# Altium integrated library Linear Technology Power Management LDO Linear Regulators.IntLib: 2339 symbols (part 105 of 131)
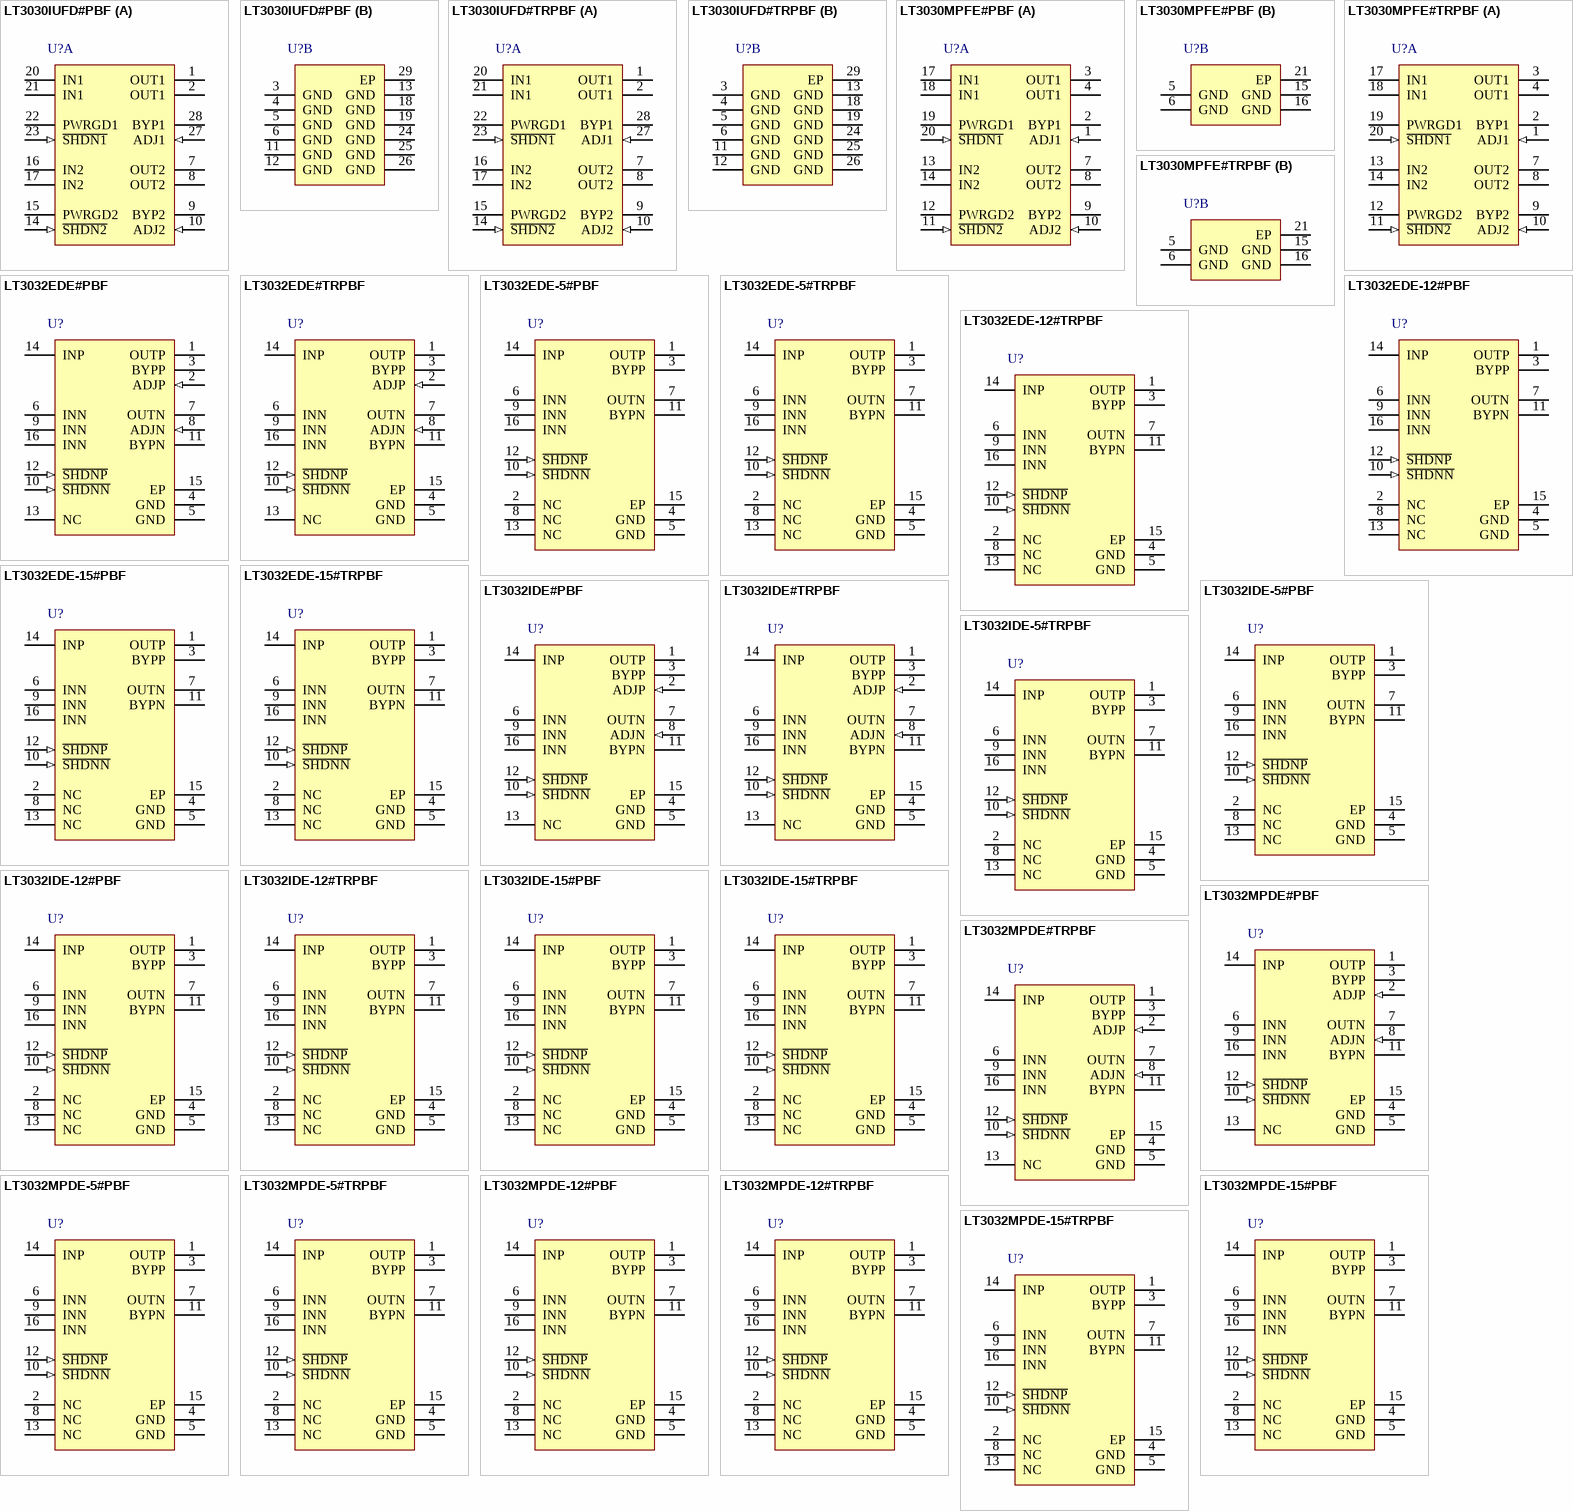
[diagram p173: symbols LT3030IUFD#PBF to LT3032MPDE-15#TRPBF]

## LT3032MPDE-12#TRPBF
designator U?
Dual 150 mA Positive / Negative Low Noise Low Dropout Linear Regulator, +/-2.3 to +/-20 V Vin, +/-12 V Vout, 14-pin SON (DE14MA-14), -55 to 125 degC, Pb-Free, Tape and Reel; Manufacturer: Linear Technology; PartNumber: LT3032MPDE-12#TRPBF; Discrete Pass Element: no; Dropout Voltage(V): 0.3; Iout(mA): 150; Isupply(mA): 0.025; Noise(uV): 30; Number of Outputs: 2; Output Voltage: +/-12V; PSRR(dB): 68; Shutdown Current(uA): 0.1; DatasheetVersion: Rev. D; PackageVersion: Rev. A, 06/2010; PackageReference: DE14MA-14; PackageDescription: 14-Pin Plastic DFN, Body 4 x 3 mm, Pitch 0.5 mm; Supplier 1: Digi-Key; Supplier Part Number 1: LT3032MPDE-12#TRPBF-ND; Packing: Tape and Reel; RoHS: TRUE; Vin Max(V): +/-20; Vin Min(V): +/-2.3; Vout Max(V): +/-12; Vout Min(V): +/-12; Mounting Technology: Surface Mount; ComponentLink1Description: Manufacturer URL; ComponentLink1URL: http://www.linear.com/; ComponentLink2Description: Datasheet; ComponentLink2URL: http://cds.linear.com/docs/en/datasheet/3032fd.pdf; ComponentLink3Description: Package Specification; ComponentLink3URL: http://cds.linear.com/docs/en/packaging/DFN_14_05-08-1731.pdf
footprint LT-DE14MA-14_V (DE14MA, 14-Leads, Body 4x3mm, Pitch 0.5mm)
pins: 1 OUTP (power) "Positive Output. This output supplies power to the positive side load. A minimum output capacitor of 2.2uF is required to prevent oscillations. Larger output capacitors are required for applications with large transient (See Datasheet)", 2 NC "No Connect. The No Connect pin has no connection to internal circuitry and may be tied to INP, GND, INN, S\H\D\N\P\, S\H\D\N\N\, OUTP, OUTN, floated, or tied to any other point.", 3 BYPP "Positive Bypass. The BYPP pin is used to bypass the reference of the positive side regulator to achieve low noise performance. The BYPP pin is clamped internally to +/-0.6V (one VBE). A small capacitor from OUTP to this pin (See Datasheet)", 4 GND (power) "Ground. One of the DFN's exposed backside pads (Pin 15) is an electrical connection to ground. To ensure proper electrical and thermal performance, solder Pin 15 to the PCB's ground and tie directly to Pins 4 and(See Datasheet)", 5 GND (power) "Ground. One of the DFN's exposed backside pads (Pin 15) is an electrical connection to ground. To ensure proper electrical and thermal performance, solder Pin 15 to the PCB's ground and tie directly to Pins 4 and(See Datasheet)", 6 INN (power) "Negative Input. The DFN package's second exposed backside pad (Pin 16) is an electrical connection to INN. To ensure proper electrical and thermal performance, solder Pin 16 to the PCB's negative input supply and (See Datasheet)", 7 OUTN (power) "Negative Output. This output supplies power to the negative side load. A minimum output capacitor of 1uF is required to prevent oscillations. Larger output capacitors are required for applications with large transient loads (See Datasheet)", 8 NC "No Connect. The No Connect pin has no connection to internal circuitry and may be tied to INP, GND, INN, S\H\D\N\P\, S\H\D\N\N\, OUTP, OUTN, floated, or tied to any other point.", 9 INN (power) "Negative Input. The DFN package's second exposed backside pad (Pin 16) is an electrical connection to INN. To ensure proper electrical and thermal performance, solder Pin 16 to the PCB's negative input supply and (See Datasheet)", 10 ~{SHDNN} (in) "Negative Shutdown. The S\H\D\N\N\ pin puts the negative side into a low power shutdown state. The S\H\D\N\N\ pin is referenced to ground for regulator control, allowing the negative side to be driven by either positive or (See Datasheet)", 11 BYPN "Negative Bypass. The BYPN pin is used to bypass the reference of the negative side regulator to achieve low noise performance. A small capacitor from OUTN to this pin will bypass the reference to lower the output voltage (See Datasheet)", 12 ~{SHDNP} (in) "Positive Shutdown. The S\H\D\N\P\ pin puts the positive side into a low power shutdown state. The positive output will be off when the S\H\D\N\P\ pin is pulled below 0.6V(typical). The S\H\D\N\P\ pin can be driven by 5V (See Datasheet)", 13 NC "No Connect. The No Connect pin has no connection to internal circuitry and may be tied to INP, GND, INN, S\H\D\N\P\, S\H\D\N\N\, OUTP, OUTN, floated, or tied to any other point.", 14 INP (power) "Positive Input. Power is supplied to the positive side of the LT3032 through the INP pin. A bypass capacitor is required on this pin if it is more than six inches away from the main input filter capacitor. In general, the (See Datasheet)", 15 EP (power) "Ground. One of the DFN's exposed backside pads (Pin 15) is an electrical connection to ground. To ensure proper electrical and thermal performance, solder Pin 15 to the PCB's ground and tie directly to Pins 4 and(See Datasheet)", 16 INN (power) "Negative Input. The DFN package's second exposed backside pad (Pin 16) is an electrical connection to INN. To ensure proper electrical and thermal performance, solder Pin 16 to the PCB's negative input supply and (See Datasheet)"

## LT3032MPDE-15#PBF
designator U?
Dual 150 mA Positive / Negative Low Noise Low Dropout Linear Regulator, +/-2.3 to +/-20 V Vin, +/-15 V Vout, 14-pin SON (DE14MA-14), -55 to 125 degC, Pb-Free; Manufacturer: Linear Technology; PartNumber: LT3032MPDE-15#PBF; Discrete Pass Element: no; Dropout Voltage(V): 0.3; Iout(mA): 150; Isupply(mA): 0.025; Noise(uV): 30; Number of Outputs: 2; Output Voltage: +/-15V; PSRR(dB): 68; Shutdown Current(uA): 0.1; DatasheetVersion: Rev. D; PackageVersion: Rev. A, 06/2010; PackageReference: DE14MA-14; PackageDescription: 14-Pin Plastic DFN, Body 4 x 3 mm, Pitch 0.5 mm; Supplier 1: Digi-Key; Supplier Part Number 1: LT3032MPDE-15#PBF-ND; RoHS: TRUE; Vin Max(V): +/-20; Vin Min(V): +/-2.3; Vout Max(V): +/-15; Vout Min(V): +/-15; Mounting Technology: Surface Mount; ComponentLink1Description: Manufacturer URL; ComponentLink1URL: http://www.linear.com/; ComponentLink2Description: Datasheet; ComponentLink2URL: http://cds.linear.com/docs/en/datasheet/3032fd.pdf; ComponentLink3Description: Package Specification; ComponentLink3URL: http://cds.linear.com/docs/en/packaging/DFN_14_05-08-1731.pdf
footprint LT-DE14MA-14_V (DE14MA, 14-Leads, Body 4x3mm, Pitch 0.5mm)
pins: 1 OUTP (power) "Positive Output. This output supplies power to the positive side load. A minimum output capacitor of 2.2uF is required to prevent oscillations. Larger output capacitors are required for applications with large transient (See Datasheet)", 2 NC "No Connect. The No Connect pin has no connection to internal circuitry and may be tied to INP, GND, INN, S\H\D\N\P\, S\H\D\N\N\, OUTP, OUTN, floated, or tied to any other point.", 3 BYPP "Positive Bypass. The BYPP pin is used to bypass the reference of the positive side regulator to achieve low noise performance. The BYPP pin is clamped internally to +/-0.6V (one VBE). A small capacitor from OUTP to this pin (See Datasheet)", 4 GND (power) "Ground. One of the DFN's exposed backside pads (Pin 15) is an electrical connection to ground. To ensure proper electrical and thermal performance, solder Pin 15 to the PCB's ground and tie directly to Pins 4 and(See Datasheet)", 5 GND (power) "Ground. One of the DFN's exposed backside pads (Pin 15) is an electrical connection to ground. To ensure proper electrical and thermal performance, solder Pin 15 to the PCB's ground and tie directly to Pins 4 and(See Datasheet)", 6 INN (power) "Negative Input. The DFN package's second exposed backside pad (Pin 16) is an electrical connection to INN. To ensure proper electrical and thermal performance, solder Pin 16 to the PCB's negative input supply and (See Datasheet)", 7 OUTN (power) "Negative Output. This output supplies power to the negative side load. A minimum output capacitor of 1uF is required to prevent oscillations. Larger output capacitors are required for applications with large transient loads (See Datasheet)", 8 NC "No Connect. The No Connect pin has no connection to internal circuitry and may be tied to INP, GND, INN, S\H\D\N\P\, S\H\D\N\N\, OUTP, OUTN, floated, or tied to any other point.", 9 INN (power) "Negative Input. The DFN package's second exposed backside pad (Pin 16) is an electrical connection to INN. To ensure proper electrical and thermal performance, solder Pin 16 to the PCB's negative input supply and (See Datasheet)", 10 ~{SHDNN} (in) "Negative Shutdown. The S\H\D\N\N\ pin puts the negative side into a low power shutdown state. The S\H\D\N\N\ pin is referenced to ground for regulator control, allowing the negative side to be driven by either positive or (See Datasheet)", 11 BYPN "Negative Bypass. The BYPN pin is used to bypass the reference of the negative side regulator to achieve low noise performance. A small capacitor from OUTN to this pin will bypass the reference to lower the output voltage (See Datasheet)", 12 ~{SHDNP} (in) "Positive Shutdown. The S\H\D\N\P\ pin puts the positive side into a low power shutdown state. The positive output will be off when the S\H\D\N\P\ pin is pulled below 0.6V(typical). The S\H\D\N\P\ pin can be driven by 5V (See Datasheet)", 13 NC "No Connect. The No Connect pin has no connection to internal circuitry and may be tied to INP, GND, INN, S\H\D\N\P\, S\H\D\N\N\, OUTP, OUTN, floated, or tied to any other point.", 14 INP (power) "Positive Input. Power is supplied to the positive side of the LT3032 through the INP pin. A bypass capacitor is required on this pin if it is more than six inches away from the main input filter capacitor. In general, the (See Datasheet)", 15 EP (power) "Ground. One of the DFN's exposed backside pads (Pin 15) is an electrical connection to ground. To ensure proper electrical and thermal performance, solder Pin 15 to the PCB's ground and tie directly to Pins 4 and(See Datasheet)", 16 INN (power) "Negative Input. The DFN package's second exposed backside pad (Pin 16) is an electrical connection to INN. To ensure proper electrical and thermal performance, solder Pin 16 to the PCB's negative input supply and (See Datasheet)"

## LT3032MPDE-15#TRPBF
designator U?
Dual 150 mA Positive / Negative Low Noise Low Dropout Linear Regulator, +/-2.3 to +/-20 V Vin, +/-15 V Vout, 14-pin SON (DE14MA-14), -55 to 125 degC, Pb-Free, Tape and Reel; Manufacturer: Linear Technology; PartNumber: LT3032MPDE-15#TRPBF; Discrete Pass Element: no; Dropout Voltage(V): 0.3; Iout(mA): 150; Isupply(mA): 0.025; Noise(uV): 30; Number of Outputs: 2; Output Voltage: +/-15V; PSRR(dB): 68; Shutdown Current(uA): 0.1; DatasheetVersion: Rev. D; PackageVersion: Rev. A, 06/2010; PackageReference: DE14MA-14; PackageDescription: 14-Pin Plastic DFN, Body 4 x 3 mm, Pitch 0.5 mm; Supplier 1: Digi-Key; Supplier Part Number 1: LT3032MPDE-15#TRPBF-ND; Packing: Tape and Reel; RoHS: TRUE; Vin Max(V): +/-20; Vin Min(V): +/-2.3; Vout Max(V): +/-15; Vout Min(V): +/-15; Mounting Technology: Surface Mount; ComponentLink1Description: Manufacturer URL; ComponentLink1URL: http://www.linear.com/; ComponentLink2Description: Datasheet; ComponentLink2URL: http://cds.linear.com/docs/en/datasheet/3032fd.pdf; ComponentLink3Description: Package Specification; ComponentLink3URL: http://cds.linear.com/docs/en/packaging/DFN_14_05-08-1731.pdf
footprint LT-DE14MA-14_V (DE14MA, 14-Leads, Body 4x3mm, Pitch 0.5mm)
pins: 1 OUTP (power) "Positive Output. This output supplies power to the positive side load. A minimum output capacitor of 2.2uF is required to prevent oscillations. Larger output capacitors are required for applications with large transient (See Datasheet)", 2 NC "No Connect. The No Connect pin has no connection to internal circuitry and may be tied to INP, GND, INN, S\H\D\N\P\, S\H\D\N\N\, OUTP, OUTN, floated, or tied to any other point.", 3 BYPP "Positive Bypass. The BYPP pin is used to bypass the reference of the positive side regulator to achieve low noise performance. The BYPP pin is clamped internally to +/-0.6V (one VBE). A small capacitor from OUTP to this pin (See Datasheet)", 4 GND (power) "Ground. One of the DFN's exposed backside pads (Pin 15) is an electrical connection to ground. To ensure proper electrical and thermal performance, solder Pin 15 to the PCB's ground and tie directly to Pins 4 and(See Datasheet)", 5 GND (power) "Ground. One of the DFN's exposed backside pads (Pin 15) is an electrical connection to ground. To ensure proper electrical and thermal performance, solder Pin 15 to the PCB's ground and tie directly to Pins 4 and(See Datasheet)", 6 INN (power) "Negative Input. The DFN package's second exposed backside pad (Pin 16) is an electrical connection to INN. To ensure proper electrical and thermal performance, solder Pin 16 to the PCB's negative input supply and (See Datasheet)", 7 OUTN (power) "Negative Output. This output supplies power to the negative side load. A minimum output capacitor of 1uF is required to prevent oscillations. Larger output capacitors are required for applications with large transient loads (See Datasheet)", 8 NC "No Connect. The No Connect pin has no connection to internal circuitry and may be tied to INP, GND, INN, S\H\D\N\P\, S\H\D\N\N\, OUTP, OUTN, floated, or tied to any other point.", 9 INN (power) "Negative Input. The DFN package's second exposed backside pad (Pin 16) is an electrical connection to INN. To ensure proper electrical and thermal performance, solder Pin 16 to the PCB's negative input supply and (See Datasheet)", 10 ~{SHDNN} (in) "Negative Shutdown. The S\H\D\N\N\ pin puts the negative side into a low power shutdown state. The S\H\D\N\N\ pin is referenced to ground for regulator control, allowing the negative side to be driven by either positive or (See Datasheet)", 11 BYPN "Negative Bypass. The BYPN pin is used to bypass the reference of the negative side regulator to achieve low noise performance. A small capacitor from OUTN to this pin will bypass the reference to lower the output voltage (See Datasheet)", 12 ~{SHDNP} (in) "Positive Shutdown. The S\H\D\N\P\ pin puts the positive side into a low power shutdown state. The positive output will be off when the S\H\D\N\P\ pin is pulled below 0.6V(typical). The S\H\D\N\P\ pin can be driven by 5V (See Datasheet)", 13 NC "No Connect. The No Connect pin has no connection to internal circuitry and may be tied to INP, GND, INN, S\H\D\N\P\, S\H\D\N\N\, OUTP, OUTN, floated, or tied to any other point.", 14 INP (power) "Positive Input. Power is supplied to the positive side of the LT3032 through the INP pin. A bypass capacitor is required on this pin if it is more than six inches away from the main input filter capacitor. In general, the (See Datasheet)", 15 EP (power) "Ground. One of the DFN's exposed backside pads (Pin 15) is an electrical connection to ground. To ensure proper electrical and thermal performance, solder Pin 15 to the PCB's ground and tie directly to Pins 4 and(See Datasheet)", 16 INN (power) "Negative Input. The DFN package's second exposed backside pad (Pin 16) is an electrical connection to INN. To ensure proper electrical and thermal performance, solder Pin 16 to the PCB's negative input supply and (See Datasheet)"

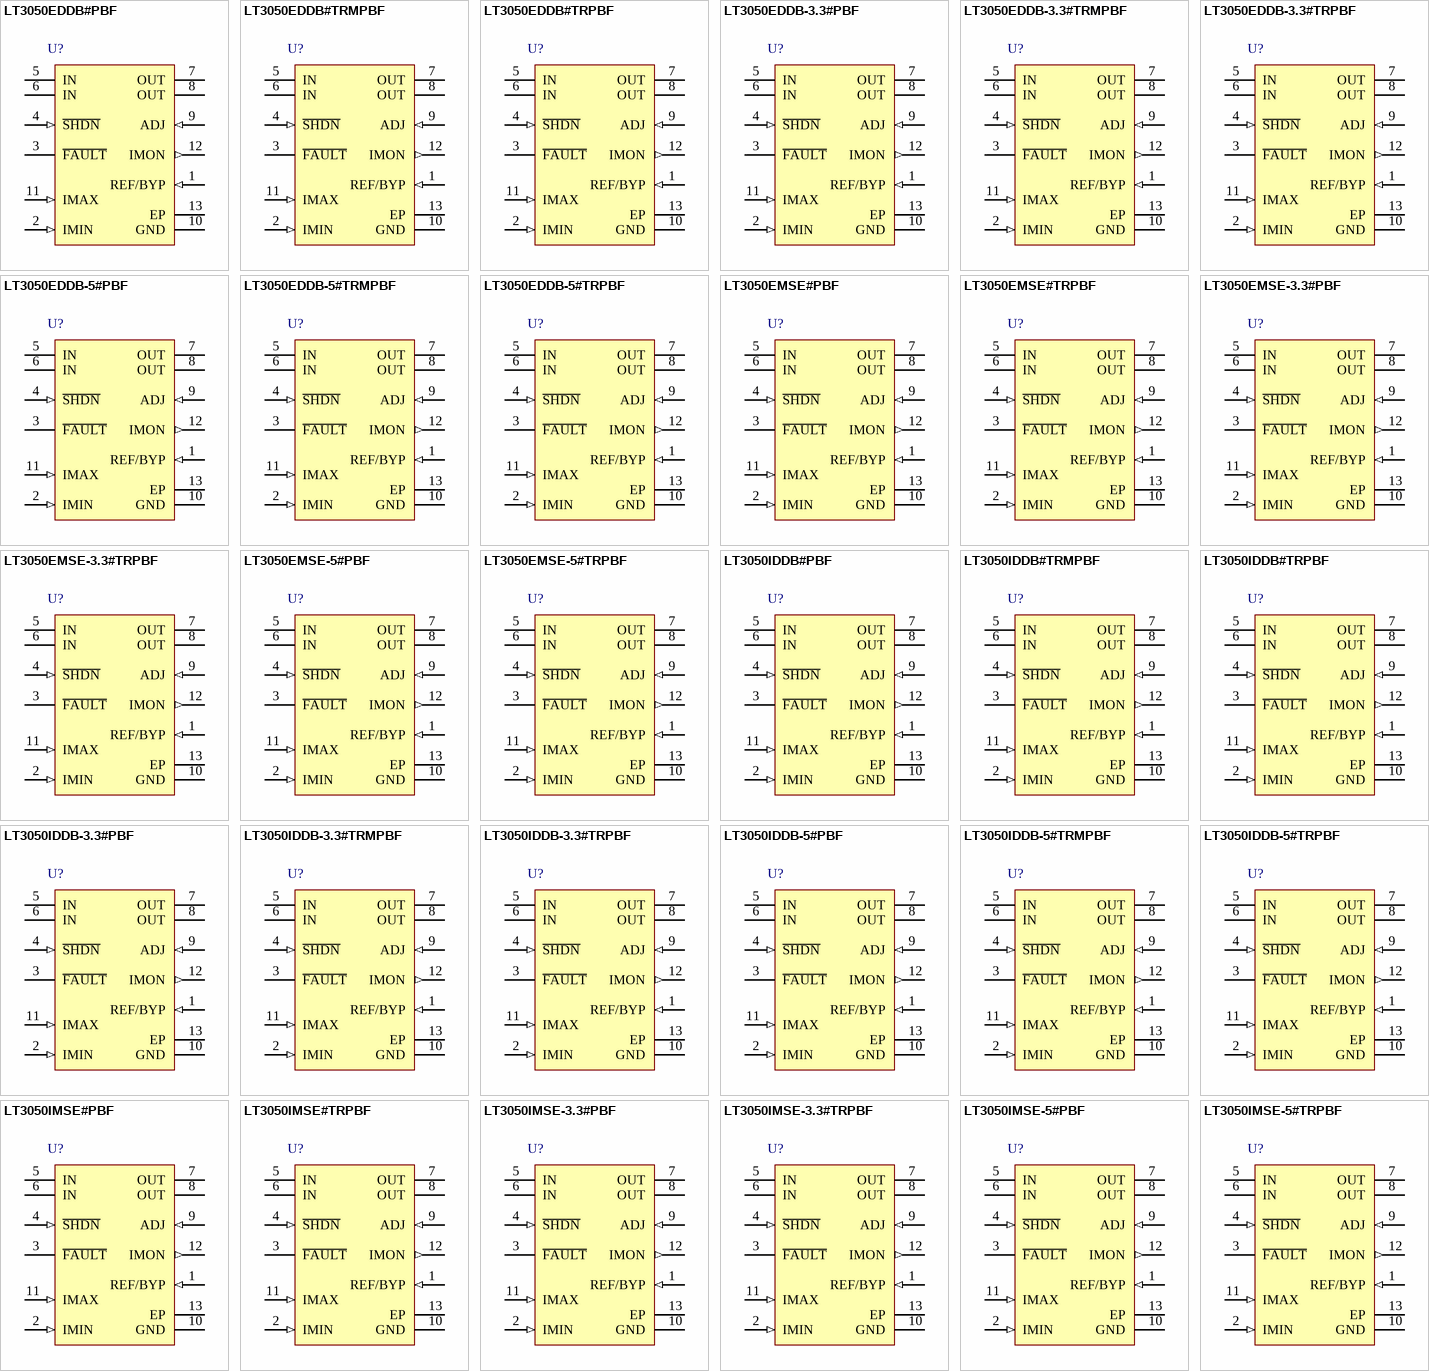
[diagram p59: symbols LT3050EDDB#PBF to LT3050IMSE-5#TRPBF]

## LT3050EDDB#PBF
designator U?
100 mA, Low Noise Linear Regulator with Precision Current Limit and Diagnostic Functions, 1.6 to 45 V Vin, Adjustable Vout, 12-pin SON (DDB-12), -40 to 125 degC, Pb-Free; Manufacturer: Linear Technology; PartNumber: LT3050EDDB#PBF; Discrete Pass Element: no; Dropout Voltage(V): 0.34; Iout(mA): 100; Isupply(mA): 0.045; Noise(uV): 30; Number of Outputs: 1; Output Voltage: Adj; PSRR(dB): 85; Shutdown Current(uA): 0.17; Vin Max(V): 45; Vin Min(V): 1.6; Vout Max(V): 44.5; Vout Min(V): 0.6; DatasheetVersion: Rev. A; PackageVersion: Rev. Ø, 06/2010; PackageReference: DDB-12; PackageDescription: 12-Pin Plastic DFN, Body 3 x 2 mm, Pitch 0.45 mm; Supplier 1: Newark; Supplier Part Number 1: 64R5086; RoHS: TRUE; Mounting Technology: Surface Mount; ComponentLink1Description: Manufacturer URL; ComponentLink1URL: http://www.linear.com/; ComponentLink2Description: Datasheet; ComponentLink2URL: http://cds.linear.com/docs/en/datasheet/3050fa.pdf; ComponentLink3Description: Package Specification; ComponentLink3URL: http://cds.linear.com/docs/en/packaging/DFN_12_05-08-1723.pdf
footprint LT-DDB-12_V (SON, 12-Leads, Body 3x2mm, Pitch 0.45mm, Thermal Pad 2.39x0.64mm)
pins: 1 REF/BYP (in), 2 IMIN (in) "Minimum Output Current Programming Pin. This pin is the collector of a PNP current mirror that outputs 1/200th of the power PNP load current. This pin is also the input to the minimum output current fault comparator. (See Datasheet)", 3 ~{FAULT} (oc) "F\a\u\l\t\ Pin. This is an open collector logic pin which asserts during current limit, thermal limit or a minimum current fault condition. The maximum low logic output level is defined for sinking 100uA of current. Off (See Datasheet)", 4 ~{SHDN} (in), 5 IN (power) "Input. These pins supply power to the device. The LT3050 requires a local IN bypass capacitor if it is located more than six inches from the main input fi lter capacitor. In general, battery output impedance rises with (See Datasheet)", 6 IN (power) "Input. These pins supply power to the device. The LT3050 requires a local IN bypass capacitor if it is located more than six inches from the main input fi lter capacitor. In general, battery output impedance rises with (See Datasheet)", 7 OUT (power) "Output. These pins supply power to the load. Stability requirements demand a minimum 2.2uF ceramic output capacitor to prevent oscillations. Large load transient applications require larger output capacitors to limit peak (See Datasheet)", 8 OUT (power) "Output. These pins supply power to the load. Stability requirements demand a minimum 2.2uF ceramic output capacitor to prevent oscillations. Large load transient applications require larger output capacitors to limit peak (See Datasheet)", 9 ADJ (in) "Adjust. This pin is the error amplifier’s inverting terminal. Its typical bias of 16nA current flows out of the pin (see curve of ADJ Pin Bias Current vs. Temperature in the Typical Performance Characteristics section)(See Datasheet)", 10 GND (power) "Ground. The exposed pad of the DFN and MSOP packages is an electrical connection to GND. To ensure proper electrical and thermal performance, solder Pin 13 to the PCB ground and tie directly to Pin 10. Connect the bottom of (See Datasheet)", 11 IMAX (in) "Precision Current Limit Programming Pin.", 12 IMON (out) "Output Current Monitor. This pin is the collector of a PNP current mirror that outputs 1/100th of the power PNP current. When OUT = IMON, the pin current exactly equals 1/100th that of the output current. For detailed (See Datasheet)", 13 EP (power) "Ground. The exposed pad of the DFN and MSOP packages is an electrical connection to GND. To ensure proper electrical and thermal performance, solder Pin 13 to the PCB ground and tie directly to Pin 10. Connect the bottom of (See Datasheet)"

## LT3050EDDB#TRMPBF
designator U?
100 mA, Low Noise Linear Regulator with Precision Current Limit and Diagnostic Functions, 1.6 to 45 V Vin, Adjustable Vout, 12-pin SON (DDB-12), -40 to 125 degC, Pb-Free, Mini Tape and Reel; Manufacturer: Linear Technology; PartNumber: LT3050EDDB#TRMPBF; Discrete Pass Element: no; Dropout Voltage(V): 0.34; Iout(mA): 100; Isupply(mA): 0.045; Noise(uV): 30; Number of Outputs: 1; Output Voltage: Adj; PSRR(dB): 85; Shutdown Current(uA): 0.17; Vin Max(V): 45; Vin Min(V): 1.6; Vout Max(V): 44.5; Vout Min(V): 0.6; DatasheetVersion: Rev. A; PackageVersion: Rev. Ø, 06/2010; PackageReference: DDB-12; PackageDescription: 12-Pin Plastic DFN, Body 3 x 2 mm, Pitch 0.45 mm; Supplier 1: Digi-Key; Supplier Part Number 1: LT3050EDDB#TRMPBFTR-ND; Supplier 2: Digi-Key; Supplier Part Number 2: LT3050EDDB#TRMPBFCT-ND; Supplier 3: Digi-Key; Supplier Part Number 3: LT3050EDDB#TRMPBFDKR-ND; Supplier 4: Newark; Supplier Part Number 4: 63R6827; Packing: Mini Tape and Reel; RoHS: TRUE; Mounting Technology: Surface Mount; ComponentLink1Description: Manufacturer URL; ComponentLink1URL: http://www.linear.com/; ComponentLink2Description: Datasheet; ComponentLink2URL: http://cds.linear.com/docs/en/datasheet/3050fa.pdf; ComponentLink3Description: Package Specification; ComponentLink3URL: http://cds.linear.com/docs/en/packaging/DFN_12_05-08-1723.pdf
footprint LT-DDB-12_V (SON, 12-Leads, Body 3x2mm, Pitch 0.45mm, Thermal Pad 2.39x0.64mm)
pins: 1 REF/BYP (in), 2 IMIN (in) "Minimum Output Current Programming Pin. This pin is the collector of a PNP current mirror that outputs 1/200th of the power PNP load current. This pin is also the input to the minimum output current fault comparator. (See Datasheet)", 3 ~{FAULT} (oc) "F\a\u\l\t\ Pin. This is an open collector logic pin which asserts during current limit, thermal limit or a minimum current fault condition. The maximum low logic output level is defined for sinking 100uA of current. Off (See Datasheet)", 4 ~{SHDN} (in), 5 IN (power) "Input. These pins supply power to the device. The LT3050 requires a local IN bypass capacitor if it is located more than six inches from the main input fi lter capacitor. In general, battery output impedance rises with (See Datasheet)", 6 IN (power) "Input. These pins supply power to the device. The LT3050 requires a local IN bypass capacitor if it is located more than six inches from the main input fi lter capacitor. In general, battery output impedance rises with (See Datasheet)", 7 OUT (power) "Output. These pins supply power to the load. Stability requirements demand a minimum 2.2uF ceramic output capacitor to prevent oscillations. Large load transient applications require larger output capacitors to limit peak (See Datasheet)", 8 OUT (power) "Output. These pins supply power to the load. Stability requirements demand a minimum 2.2uF ceramic output capacitor to prevent oscillations. Large load transient applications require larger output capacitors to limit peak (See Datasheet)", 9 ADJ (in) "Adjust. This pin is the error amplifier’s inverting terminal. Its typical bias of 16nA current flows out of the pin (see curve of ADJ Pin Bias Current vs. Temperature in the Typical Performance Characteristics section)(See Datasheet)", 10 GND (power) "Ground. The exposed pad of the DFN and MSOP packages is an electrical connection to GND. To ensure proper electrical and thermal performance, solder Pin 13 to the PCB ground and tie directly to Pin 10. Connect the bottom of (See Datasheet)", 11 IMAX (in) "Precision Current Limit Programming Pin.", 12 IMON (out) "Output Current Monitor. This pin is the collector of a PNP current mirror that outputs 1/100th of the power PNP current. When OUT = IMON, the pin current exactly equals 1/100th that of the output current. For detailed (See Datasheet)", 13 EP (power) "Ground. The exposed pad of the DFN and MSOP packages is an electrical connection to GND. To ensure proper electrical and thermal performance, solder Pin 13 to the PCB ground and tie directly to Pin 10. Connect the bottom of (See Datasheet)"

## LT3050EDDB#TRPBF
designator U?
100 mA, Low Noise Linear Regulator with Precision Current Limit and Diagnostic Functions, 1.6 to 45 V Vin, Adjustable Vout, 12-pin SON (DDB-12), -40 to 125 degC, Pb-Free, Tape and Reel; Manufacturer: Linear Technology; PartNumber: LT3050EDDB#TRPBF; Discrete Pass Element: no; Dropout Voltage(V): 0.34; Iout(mA): 100; Isupply(mA): 0.045; Noise(uV): 30; Number of Outputs: 1; Output Voltage: Adj; PSRR(dB): 85; Shutdown Current(uA): 0.17; Vin Max(V): 45; Vin Min(V): 1.6; Vout Max(V): 44.5; Vout Min(V): 0.6; DatasheetVersion: Rev. A; PackageVersion: Rev. Ø, 06/2010; PackageReference: DDB-12; PackageDescription: 12-Pin Plastic DFN, Body 3 x 2 mm, Pitch 0.45 mm; Supplier 1: Digi-Key; Supplier Part Number 1: LT3050EDDB#TRPBF-ND; Packing: Tape and Reel; RoHS: TRUE; Mounting Technology: Surface Mount; ComponentLink1Description: Manufacturer URL; ComponentLink1URL: http://www.linear.com/; ComponentLink2Description: Datasheet; ComponentLink2URL: http://cds.linear.com/docs/en/datasheet/3050fa.pdf; ComponentLink3Description: Package Specification; ComponentLink3URL: http://cds.linear.com/docs/en/packaging/DFN_12_05-08-1723.pdf
footprint LT-DDB-12_V (SON, 12-Leads, Body 3x2mm, Pitch 0.45mm, Thermal Pad 2.39x0.64mm)
pins: 1 REF/BYP (in), 2 IMIN (in) "Minimum Output Current Programming Pin. This pin is the collector of a PNP current mirror that outputs 1/200th of the power PNP load current. This pin is also the input to the minimum output current fault comparator. (See Datasheet)", 3 ~{FAULT} (oc) "F\a\u\l\t\ Pin. This is an open collector logic pin which asserts during current limit, thermal limit or a minimum current fault condition. The maximum low logic output level is defined for sinking 100uA of current. Off (See Datasheet)", 4 ~{SHDN} (in), 5 IN (power) "Input. These pins supply power to the device. The LT3050 requires a local IN bypass capacitor if it is located more than six inches from the main input fi lter capacitor. In general, battery output impedance rises with (See Datasheet)", 6 IN (power) "Input. These pins supply power to the device. The LT3050 requires a local IN bypass capacitor if it is located more than six inches from the main input fi lter capacitor. In general, battery output impedance rises with (See Datasheet)", 7 OUT (power) "Output. These pins supply power to the load. Stability requirements demand a minimum 2.2uF ceramic output capacitor to prevent oscillations. Large load transient applications require larger output capacitors to limit peak (See Datasheet)", 8 OUT (power) "Output. These pins supply power to the load. Stability requirements demand a minimum 2.2uF ceramic output capacitor to prevent oscillations. Large load transient applications require larger output capacitors to limit peak (See Datasheet)", 9 ADJ (in) "Adjust. This pin is the error amplifier’s inverting terminal. Its typical bias of 16nA current flows out of the pin (see curve of ADJ Pin Bias Current vs. Temperature in the Typical Performance Characteristics section)(See Datasheet)", 10 GND (power) "Ground. The exposed pad of the DFN and MSOP packages is an electrical connection to GND. To ensure proper electrical and thermal performance, solder Pin 13 to the PCB ground and tie directly to Pin 10. Connect the bottom of (See Datasheet)", 11 IMAX (in) "Precision Current Limit Programming Pin.", 12 IMON (out) "Output Current Monitor. This pin is the collector of a PNP current mirror that outputs 1/100th of the power PNP current. When OUT = IMON, the pin current exactly equals 1/100th that of the output current. For detailed (See Datasheet)", 13 EP (power) "Ground. The exposed pad of the DFN and MSOP packages is an electrical connection to GND. To ensure proper electrical and thermal performance, solder Pin 13 to the PCB ground and tie directly to Pin 10. Connect the bottom of (See Datasheet)"

## LT3050EDDB-3.3#PBF
designator U?
100 mA, Low Noise Linear Regulator with Precision Current Limit and Diagnostic Functions, 1.6 to 45 V Vin, 3.3 V Vout, 12-pin SON (DDB-12), -40 to 125 degC, Pb-Free; Manufacturer: Linear Technology; PartNumber: LT3050EDDB-3.3#PBF; Discrete Pass Element: no; Dropout Voltage(V): 0.34; Iout(mA): 100; Isupply(mA): 0.045; Noise(uV): 30; Number of Outputs: 1; Output Voltage: 3.3 V; PSRR(dB): 70; Shutdown Current(uA): 0.17; Vin Max(V): 45; Vin Min(V): 1.6; DatasheetVersion: Rev. A; PackageVersion: Rev. Ø, 06/2010; PackageReference: DDB-12; PackageDescription: 12-Pin Plastic DFN, Body 3 x 2 mm, Pitch 0.45 mm; Supplier 1: Newark; Supplier Part Number 1: 79R3065; RoHS: TRUE; Mounting Technology: Surface Mount; ComponentLink1Description: Manufacturer URL; ComponentLink1URL: http://www.linear.com/; ComponentLink2Description: Datasheet; ComponentLink2URL: http://cds.linear.com/docs/en/datasheet/3050fa.pdf; ComponentLink3Description: Package Specification; ComponentLink3URL: http://cds.linear.com/docs/en/packaging/DFN_12_05-08-1723.pdf
footprint LT-DDB-12_V (SON, 12-Leads, Body 3x2mm, Pitch 0.45mm, Thermal Pad 2.39x0.64mm)
pins: 1 REF/BYP (in), 2 IMIN (in) "Minimum Output Current Programming Pin. This pin is the collector of a PNP current mirror that outputs 1/200th of the power PNP load current. This pin is also the input to the minimum output current fault comparator. (See Datasheet)", 3 ~{FAULT} (oc) "F\a\u\l\t\ Pin. This is an open collector logic pin which asserts during current limit, thermal limit or a minimum current fault condition. The maximum low logic output level is defined for sinking 100uA of current. Off (See Datasheet)", 4 ~{SHDN} (in), 5 IN (power) "Input. These pins supply power to the device. The LT3050 requires a local IN bypass capacitor if it is located more than six inches from the main input fi lter capacitor. In general, battery output impedance rises with (See Datasheet)", 6 IN (power) "Input. These pins supply power to the device. The LT3050 requires a local IN bypass capacitor if it is located more than six inches from the main input fi lter capacitor. In general, battery output impedance rises with (See Datasheet)", 7 OUT (power) "Output. These pins supply power to the load. Stability requirements demand a minimum 2.2uF ceramic output capacitor to prevent oscillations. Large load transient applications require larger output capacitors to limit peak (See Datasheet)", 8 OUT (power) "Output. These pins supply power to the load. Stability requirements demand a minimum 2.2uF ceramic output capacitor to prevent oscillations. Large load transient applications require larger output capacitors to limit peak (See Datasheet)", 9 ADJ (in) "Adjust. This pin is the error amplifier’s inverting terminal. Its typical bias of 16nA current flows out of the pin (see curve of ADJ Pin Bias Current vs. Temperature in the Typical Performance Characteristics section)(See Datasheet)", 10 GND (power) "Ground. The exposed pad of the DFN and MSOP packages is an electrical connection to GND. To ensure proper electrical and thermal performance, solder Pin 13 to the PCB ground and tie directly to Pin 10. Connect the bottom of (See Datasheet)", 11 IMAX (in) "Precision Current Limit Programming Pin.", 12 IMON (out) "Output Current Monitor. This pin is the collector of a PNP current mirror that outputs 1/100th of the power PNP current. When OUT = IMON, the pin current exactly equals 1/100th that of the output current. For detailed (See Datasheet)", 13 EP (power) "Ground. The exposed pad of the DFN and MSOP packages is an electrical connection to GND. To ensure proper electrical and thermal performance, solder Pin 13 to the PCB ground and tie directly to Pin 10. Connect the bottom of (See Datasheet)"

## LT3050EDDB-3.3#TRMPBF
designator U?
100 mA, Low Noise Linear Regulator with Precision Current Limit and Diagnostic Functions, 1.6 to 45 V Vin, 3.3 V Vout, 12-pin SON (DDB-12), -40 to 125 degC, Pb-Free, Mini Tape and Reel; Manufacturer: Linear Technology; PartNumber: LT3050EDDB-3.3#TRMPBF; Discrete Pass Element: no; Dropout Voltage(V): 0.34; Iout(mA): 100; Isupply(mA): 0.045; Noise(uV): 30; Number of Outputs: 1; Output Voltage: 3.3 V; PSRR(dB): 70; Shutdown Current(uA): 0.17; Vin Max(V): 45; Vin Min(V): 1.6; DatasheetVersion: Rev. A; PackageVersion: Rev. Ø, 06/2010; PackageReference: DDB-12; PackageDescription: 12-Pin Plastic DFN, Body 3 x 2 mm, Pitch 0.45 mm; Supplier 1: Digi-Key; Supplier Part Number 1: LT3050EDDB-3.3#TRMPBFTR-ND; Supplier 2: Digi-Key; Supplier Part Number 2: LT3050EDDB-3.3#TRMPBFCT-ND; Supplier 3: Digi-Key; Supplier Part Number 3: LT3050EDDB-3.3#TRMPBFDKR-ND; Supplier 4: Newark; Supplier Part Number 4: 78R8431; Packing: Mini Tape and Reel; RoHS: TRUE; Mounting Technology: Surface Mount; ComponentLink1Description: Manufacturer URL; ComponentLink1URL: http://www.linear.com/; ComponentLink2Description: Datasheet; ComponentLink2URL: http://cds.linear.com/docs/en/datasheet/3050fa.pdf; ComponentLink3Description: Package Specification; ComponentLink3URL: http://cds.linear.com/docs/en/packaging/DFN_12_05-08-1723.pdf
footprint LT-DDB-12_V (SON, 12-Leads, Body 3x2mm, Pitch 0.45mm, Thermal Pad 2.39x0.64mm)
pins: 1 REF/BYP (in), 2 IMIN (in) "Minimum Output Current Programming Pin. This pin is the collector of a PNP current mirror that outputs 1/200th of the power PNP load current. This pin is also the input to the minimum output current fault comparator. (See Datasheet)", 3 ~{FAULT} (oc) "F\a\u\l\t\ Pin. This is an open collector logic pin which asserts during current limit, thermal limit or a minimum current fault condition. The maximum low logic output level is defined for sinking 100uA of current. Off (See Datasheet)", 4 ~{SHDN} (in), 5 IN (power) "Input. These pins supply power to the device. The LT3050 requires a local IN bypass capacitor if it is located more than six inches from the main input fi lter capacitor. In general, battery output impedance rises with (See Datasheet)", 6 IN (power) "Input. These pins supply power to the device. The LT3050 requires a local IN bypass capacitor if it is located more than six inches from the main input fi lter capacitor. In general, battery output impedance rises with (See Datasheet)", 7 OUT (power) "Output. These pins supply power to the load. Stability requirements demand a minimum 2.2uF ceramic output capacitor to prevent oscillations. Large load transient applications require larger output capacitors to limit peak (See Datasheet)", 8 OUT (power) "Output. These pins supply power to the load. Stability requirements demand a minimum 2.2uF ceramic output capacitor to prevent oscillations. Large load transient applications require larger output capacitors to limit peak (See Datasheet)", 9 ADJ (in) "Adjust. This pin is the error amplifier’s inverting terminal. Its typical bias of 16nA current flows out of the pin (see curve of ADJ Pin Bias Current vs. Temperature in the Typical Performance Characteristics section)(See Datasheet)", 10 GND (power) "Ground. The exposed pad of the DFN and MSOP packages is an electrical connection to GND. To ensure proper electrical and thermal performance, solder Pin 13 to the PCB ground and tie directly to Pin 10. Connect the bottom of (See Datasheet)", 11 IMAX (in) "Precision Current Limit Programming Pin.", 12 IMON (out) "Output Current Monitor. This pin is the collector of a PNP current mirror that outputs 1/100th of the power PNP current. When OUT = IMON, the pin current exactly equals 1/100th that of the output current. For detailed (See Datasheet)", 13 EP (power) "Ground. The exposed pad of the DFN and MSOP packages is an electrical connection to GND. To ensure proper electrical and thermal performance, solder Pin 13 to the PCB ground and tie directly to Pin 10. Connect the bottom of (See Datasheet)"

## LT3050EDDB-3.3#TRPBF
designator U?
100 mA, Low Noise Linear Regulator with Precision Current Limit and Diagnostic Functions, 1.6 to 45 V Vin, 3.3 V Vout, 12-pin SON (DDB-12), -40 to 125 degC, Pb-Free, Tape and Reel; Manufacturer: Linear Technology; PartNumber: LT3050EDDB-3.3#TRPBF; Discrete Pass Element: no; Dropout Voltage(V): 0.34; Iout(mA): 100; Isupply(mA): 0.045; Noise(uV): 30; Number of Outputs: 1; Output Voltage: 3.3 V; PSRR(dB): 70; Shutdown Current(uA): 0.17; Vin Max(V): 45; Vin Min(V): 1.6; DatasheetVersion: Rev. A; PackageVersion: Rev. Ø, 06/2010; PackageReference: DDB-12; PackageDescription: 12-Pin Plastic DFN, Body 3 x 2 mm, Pitch 0.45 mm; Supplier 1: Digi-Key; Supplier Part Number 1: LT3050EDDB-3.3#TRPBF-ND; Packing: Tape and Reel; RoHS: TRUE; Mounting Technology: Surface Mount; ComponentLink1Description: Manufacturer URL; ComponentLink1URL: http://www.linear.com/; ComponentLink2Description: Datasheet; ComponentLink2URL: http://cds.linear.com/docs/en/datasheet/3050fa.pdf; ComponentLink3Description: Package Specification; ComponentLink3URL: http://cds.linear.com/docs/en/packaging/DFN_12_05-08-1723.pdf
footprint LT-DDB-12_V (SON, 12-Leads, Body 3x2mm, Pitch 0.45mm, Thermal Pad 2.39x0.64mm)
pins: 1 REF/BYP (in), 2 IMIN (in) "Minimum Output Current Programming Pin. This pin is the collector of a PNP current mirror that outputs 1/200th of the power PNP load current. This pin is also the input to the minimum output current fault comparator. (See Datasheet)", 3 ~{FAULT} (oc) "F\a\u\l\t\ Pin. This is an open collector logic pin which asserts during current limit, thermal limit or a minimum current fault condition. The maximum low logic output level is defined for sinking 100uA of current. Off (See Datasheet)", 4 ~{SHDN} (in), 5 IN (power) "Input. These pins supply power to the device. The LT3050 requires a local IN bypass capacitor if it is located more than six inches from the main input fi lter capacitor. In general, battery output impedance rises with (See Datasheet)", 6 IN (power) "Input. These pins supply power to the device. The LT3050 requires a local IN bypass capacitor if it is located more than six inches from the main input fi lter capacitor. In general, battery output impedance rises with (See Datasheet)", 7 OUT (power) "Output. These pins supply power to the load. Stability requirements demand a minimum 2.2uF ceramic output capacitor to prevent oscillations. Large load transient applications require larger output capacitors to limit peak (See Datasheet)", 8 OUT (power) "Output. These pins supply power to the load. Stability requirements demand a minimum 2.2uF ceramic output capacitor to prevent oscillations. Large load transient applications require larger output capacitors to limit peak (See Datasheet)", 9 ADJ (in) "Adjust. This pin is the error amplifier’s inverting terminal. Its typical bias of 16nA current flows out of the pin (see curve of ADJ Pin Bias Current vs. Temperature in the Typical Performance Characteristics section)(See Datasheet)", 10 GND (power) "Ground. The exposed pad of the DFN and MSOP packages is an electrical connection to GND. To ensure proper electrical and thermal performance, solder Pin 13 to the PCB ground and tie directly to Pin 10. Connect the bottom of (See Datasheet)", 11 IMAX (in) "Precision Current Limit Programming Pin.", 12 IMON (out) "Output Current Monitor. This pin is the collector of a PNP current mirror that outputs 1/100th of the power PNP current. When OUT = IMON, the pin current exactly equals 1/100th that of the output current. For detailed (See Datasheet)", 13 EP (power) "Ground. The exposed pad of the DFN and MSOP packages is an electrical connection to GND. To ensure proper electrical and thermal performance, solder Pin 13 to the PCB ground and tie directly to Pin 10. Connect the bottom of (See Datasheet)"

## LT3050EDDB-5#PBF
designator U?
100 mA, Low Noise Linear Regulator with Precision Current Limit and Diagnostic Functions, 1.6 to 45 V Vin, 5 V Vout, 12-pin SON (DDB-12), -40 to 125 degC, Pb-Free; Manufacturer: Linear Technology; PartNumber: LT3050EDDB-5#PBF; Discrete Pass Element: no; Dropout Voltage(V): 0.34; Iout(mA): 100; Isupply(mA): 0.045; Noise(uV): 30; Number of Outputs: 1; Output Voltage: 5 V; PSRR(dB): 66; Shutdown Current(uA): 0.17; Vin Max(V): 45; Vin Min(V): 1.6; DatasheetVersion: Rev. A; PackageVersion: Rev. Ø, 06/2010; PackageReference: DDB-12; PackageDescription: 12-Pin Plastic DFN, Body 3 x 2 mm, Pitch 0.45 mm; Supplier 1: Farnell; Supplier Part Number 1: 1833792; Supplier 2: Newark; Supplier Part Number 2: 79R3066; RoHS: TRUE; Mounting Technology: Surface Mount; ComponentLink1Description: Manufacturer URL; ComponentLink1URL: http://www.linear.com/; ComponentLink2Description: Datasheet; ComponentLink2URL: http://cds.linear.com/docs/en/datasheet/3050fa.pdf; ComponentLink3Description: Package Specification; ComponentLink3URL: http://cds.linear.com/docs/en/packaging/DFN_12_05-08-1723.pdf
footprint LT-DDB-12_V (SON, 12-Leads, Body 3x2mm, Pitch 0.45mm, Thermal Pad 2.39x0.64mm)
pins: 1 REF/BYP (in), 2 IMIN (in) "Minimum Output Current Programming Pin. This pin is the collector of a PNP current mirror that outputs 1/200th of the power PNP load current. This pin is also the input to the minimum output current fault comparator. (See Datasheet)", 3 ~{FAULT} (oc) "F\a\u\l\t\ Pin. This is an open collector logic pin which asserts during current limit, thermal limit or a minimum current fault condition. The maximum low logic output level is defined for sinking 100uA of current. Off (See Datasheet)", 4 ~{SHDN} (in), 5 IN (power) "Input. These pins supply power to the device. The LT3050 requires a local IN bypass capacitor if it is located more than six inches from the main input fi lter capacitor. In general, battery output impedance rises with (See Datasheet)", 6 IN (power) "Input. These pins supply power to the device. The LT3050 requires a local IN bypass capacitor if it is located more than six inches from the main input fi lter capacitor. In general, battery output impedance rises with (See Datasheet)", 7 OUT (power) "Output. These pins supply power to the load. Stability requirements demand a minimum 2.2uF ceramic output capacitor to prevent oscillations. Large load transient applications require larger output capacitors to limit peak (See Datasheet)", 8 OUT (power) "Output. These pins supply power to the load. Stability requirements demand a minimum 2.2uF ceramic output capacitor to prevent oscillations. Large load transient applications require larger output capacitors to limit peak (See Datasheet)", 9 ADJ (in) "Adjust. This pin is the error amplifier’s inverting terminal. Its typical bias of 16nA current flows out of the pin (see curve of ADJ Pin Bias Current vs. Temperature in the Typical Performance Characteristics section)(See Datasheet)", 10 GND (power) "Ground. The exposed pad of the DFN and MSOP packages is an electrical connection to GND. To ensure proper electrical and thermal performance, solder Pin 13 to the PCB ground and tie directly to Pin 10. Connect the bottom of (See Datasheet)", 11 IMAX (in) "Precision Current Limit Programming Pin.", 12 IMON (out) "Output Current Monitor. This pin is the collector of a PNP current mirror that outputs 1/100th of the power PNP current. When OUT = IMON, the pin current exactly equals 1/100th that of the output current. For detailed (See Datasheet)", 13 EP (power) "Ground. The exposed pad of the DFN and MSOP packages is an electrical connection to GND. To ensure proper electrical and thermal performance, solder Pin 13 to the PCB ground and tie directly to Pin 10. Connect the bottom of (See Datasheet)"

## LT3050EDDB-5#TRMPBF
designator U?
100 mA, Low Noise Linear Regulator with Precision Current Limit and Diagnostic Functions, 1.6 to 45 V Vin, 5 V Vout, 12-pin SON (DDB-12), -40 to 125 degC, Pb-Free, Mini Tape and Reel; Manufacturer: Linear Technology; PartNumber: LT3050EDDB-5#TRMPBF; Discrete Pass Element: no; Dropout Voltage(V): 0.34; Iout(mA): 100; Isupply(mA): 0.045; Noise(uV): 30; Number of Outputs: 1; Output Voltage: 5 V; PSRR(dB): 66; Shutdown Current(uA): 0.17; Vin Max(V): 45; Vin Min(V): 1.6; DatasheetVersion: Rev. A; PackageVersion: Rev. Ø, 06/2010; PackageReference: DDB-12; PackageDescription: 12-Pin Plastic DFN, Body 3 x 2 mm, Pitch 0.45 mm; Supplier 1: Digi-Key; Supplier Part Number 1: LT3050EDDB-5#TRMPBFTR-ND; Supplier 2: Digi-Key; Supplier Part Number 2: LT3050EDDB-5#TRMPBFCT-ND; Supplier 3: Digi-Key; Supplier Part Number 3: LT3050EDDB-5#TRMPBFDKR-ND; Supplier 4: Newark; Supplier Part Number 4: 78R8433; Packing: Mini Tape and Reel; RoHS: TRUE; Mounting Technology: Surface Mount; ComponentLink1Description: Manufacturer URL; ComponentLink1URL: http://www.linear.com/; ComponentLink2Description: Datasheet; ComponentLink2URL: http://cds.linear.com/docs/en/datasheet/3050fa.pdf; ComponentLink3Description: Package Specification; ComponentLink3URL: http://cds.linear.com/docs/en/packaging/DFN_12_05-08-1723.pdf
footprint LT-DDB-12_V (SON, 12-Leads, Body 3x2mm, Pitch 0.45mm, Thermal Pad 2.39x0.64mm)
pins: 1 REF/BYP (in), 2 IMIN (in) "Minimum Output Current Programming Pin. This pin is the collector of a PNP current mirror that outputs 1/200th of the power PNP load current. This pin is also the input to the minimum output current fault comparator. (See Datasheet)", 3 ~{FAULT} (oc) "F\a\u\l\t\ Pin. This is an open collector logic pin which asserts during current limit, thermal limit or a minimum current fault condition. The maximum low logic output level is defined for sinking 100uA of current. Off (See Datasheet)", 4 ~{SHDN} (in), 5 IN (power) "Input. These pins supply power to the device. The LT3050 requires a local IN bypass capacitor if it is located more than six inches from the main input fi lter capacitor. In general, battery output impedance rises with (See Datasheet)", 6 IN (power) "Input. These pins supply power to the device. The LT3050 requires a local IN bypass capacitor if it is located more than six inches from the main input fi lter capacitor. In general, battery output impedance rises with (See Datasheet)", 7 OUT (power) "Output. These pins supply power to the load. Stability requirements demand a minimum 2.2uF ceramic output capacitor to prevent oscillations. Large load transient applications require larger output capacitors to limit peak (See Datasheet)", 8 OUT (power) "Output. These pins supply power to the load. Stability requirements demand a minimum 2.2uF ceramic output capacitor to prevent oscillations. Large load transient applications require larger output capacitors to limit peak (See Datasheet)", 9 ADJ (in) "Adjust. This pin is the error amplifier’s inverting terminal. Its typical bias of 16nA current flows out of the pin (see curve of ADJ Pin Bias Current vs. Temperature in the Typical Performance Characteristics section)(See Datasheet)", 10 GND (power) "Ground. The exposed pad of the DFN and MSOP packages is an electrical connection to GND. To ensure proper electrical and thermal performance, solder Pin 13 to the PCB ground and tie directly to Pin 10. Connect the bottom of (See Datasheet)", 11 IMAX (in) "Precision Current Limit Programming Pin.", 12 IMON (out) "Output Current Monitor. This pin is the collector of a PNP current mirror that outputs 1/100th of the power PNP current. When OUT = IMON, the pin current exactly equals 1/100th that of the output current. For detailed (See Datasheet)", 13 EP (power) "Ground. The exposed pad of the DFN and MSOP packages is an electrical connection to GND. To ensure proper electrical and thermal performance, solder Pin 13 to the PCB ground and tie directly to Pin 10. Connect the bottom of (See Datasheet)"